# Altium footprint library Custom.PcbLib: 5 footprints
Each footprint in its own frame and in the unit in brackets; x right, y up, seen from the top. Pads: shape width x height; smd on the part's side, far side on the other; paste and mask are expansions set on the pad; w line width, h text height; cw(c..) or ccw(c..) is an arc to the next point about the centre after c.
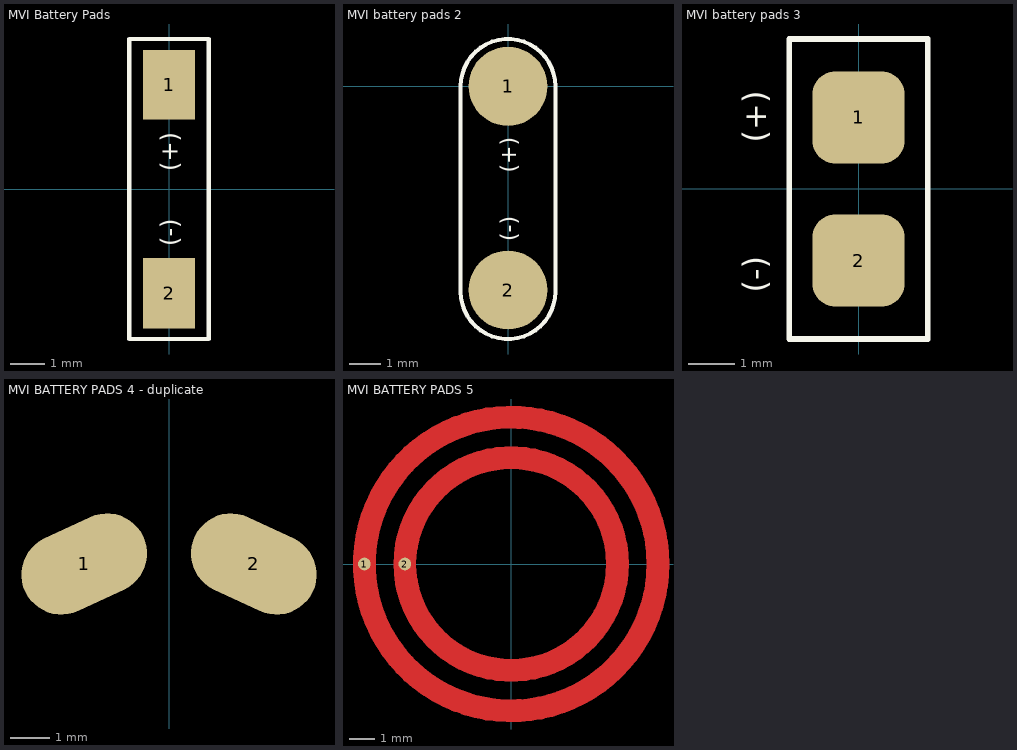
[diagram p0: the footprints below, top view; thin cyan lines are the x and y axes]

## MVI Battery Pads [mm]
pads (2):
  rect 1.5x2 smd: 1(0,2.997)
  rect 1.5x2.032 smd: 2(0,-2.997)
Top Overlay:
  lines w0.127: -1.143,-4.318 1.143,-4.318 1.143,4.318 -1.143,4.318 -1.143,-4.318
  text "(+)" at 0.254,0.508 h0.51
  text "(-)" at 0.254,-1.651 h0.51

## MVI battery pads 2 [mm]
pads (2):
  round 2.5 smd: 1(0,0) 2(0,-6.452)
Top Overlay:
  lines w0.127: -1.5,-6.5 ccw(c0,-6.5) 1.5,-6.5 1.5,0 ccw(c0,0) -1.5,0 -1.5,-6.5
  text "(+)" at 0.254,-2.742 h0.51
  text "(-)" at 0.254,-4.901 h0.51

## MVI battery pads 3 [mm]
pads (2):
  rrect50% 2x2 smd: 1(0,1.55) 2(0,-1.55)
Top Overlay:
  lines w0.127: 1.5,-3.25 ccw(c1.5,-3.25) 1.5,-3.25 ; 1.5,-3.25 1.5,3.25 ; 1.5,-3.25 -1.5,-3.25 -1.5,3.25 1.5,3.25 ; 1.5,3.25 ccw(c1.5,3.25) 1.5,3.25
  text "(-)" at -2,-2.25 h0.51
  text "(+)" at -2,1 h0.51

## MVI BATTERY PADS 4 - duplicate [mil]
pads (2):
  rrect100% 130x80 smd rot 25: 1(-84.52,181.26)
  rrect100% 130x80 smd rot 155: 2(84.52,181.26)

## MVI BATTERY PADS 5 [mm]
pads (2):
  round 0.5 smd paste+0 mask+0: 1(-5.8,0) 2(-4.2,0)
Top Layer:
  circle w0.9: c0,0 r5.8
  circle w0.9: c0,0 r4.2